# Altium integrated library SI5330G-B00219-GM.IntLib: 1 symbol
Pins are listed as number, name and electrical type; pins without a type are passive.

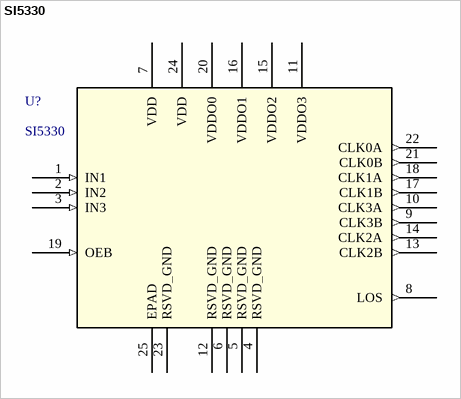
[diagram p0: symbol SI5330]

## SI5330
designator U?
Imported; Vendor: SILICONLABS; Manufacturer_Part_Number: si5330; RefDes: RefDes; Type: DEV; Value: Value
footprint QFN_24
pins: 1 IN1 (in), 2 IN2 (in), 3 IN3 (in), 4 RSVD_GND (power), 5 RSVD_GND (power), 6 RSVD_GND (power), 7 VDD (power), 8 LOS (out), 9 CLK3B (out), 10 CLK3A (out), 11 VDDO3 (power), 12 RSVD_GND (power), 13 CLK2B (out), 14 CLK2A (out), 15 VDDO2 (power), 16 VDDO1 (power), 17 CLK1B (out), 18 CLK1A (out), 19 OEB (in), 20 VDDO0 (power), 21 CLK0B (out), 22 CLK0A (out), 23 RSVD_GND (power), 24 VDD (power), 25 EPAD